# EAGLE library part GY-9250 (library imu)
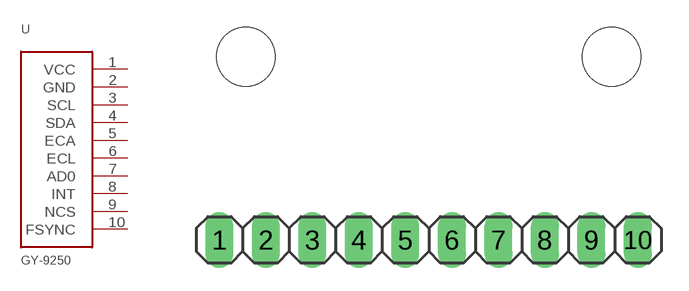
[diagram p1: symbol with the pads of IMU; footprint IMU]

Designator prefix -

## GY-9250  [IMU]
1  VCC
2  GND
3  SCL
4  SDA
5  ECA
6  ECL
7  AD0
8  INT
9  NCS
10  FSYNC

## Footprint IMU (pad centres in mm)
drill 1.016 long: 1 -11.43,0; 2 -8.89,0; 3 -6.35,0; 4 -3.81,0; 5 -1.27,0; 6 1.27,0; 7 3.81,0; 8 6.35,0; 9 8.89,0; 10 11.43,0
hole 3.2 at 10,10
hole 3.2 at -10,10